# Altium integrated library Driver_Modulation.IntLib: 69 symbols
Pins are listed as number, name and electrical type; pins without a type are passive.

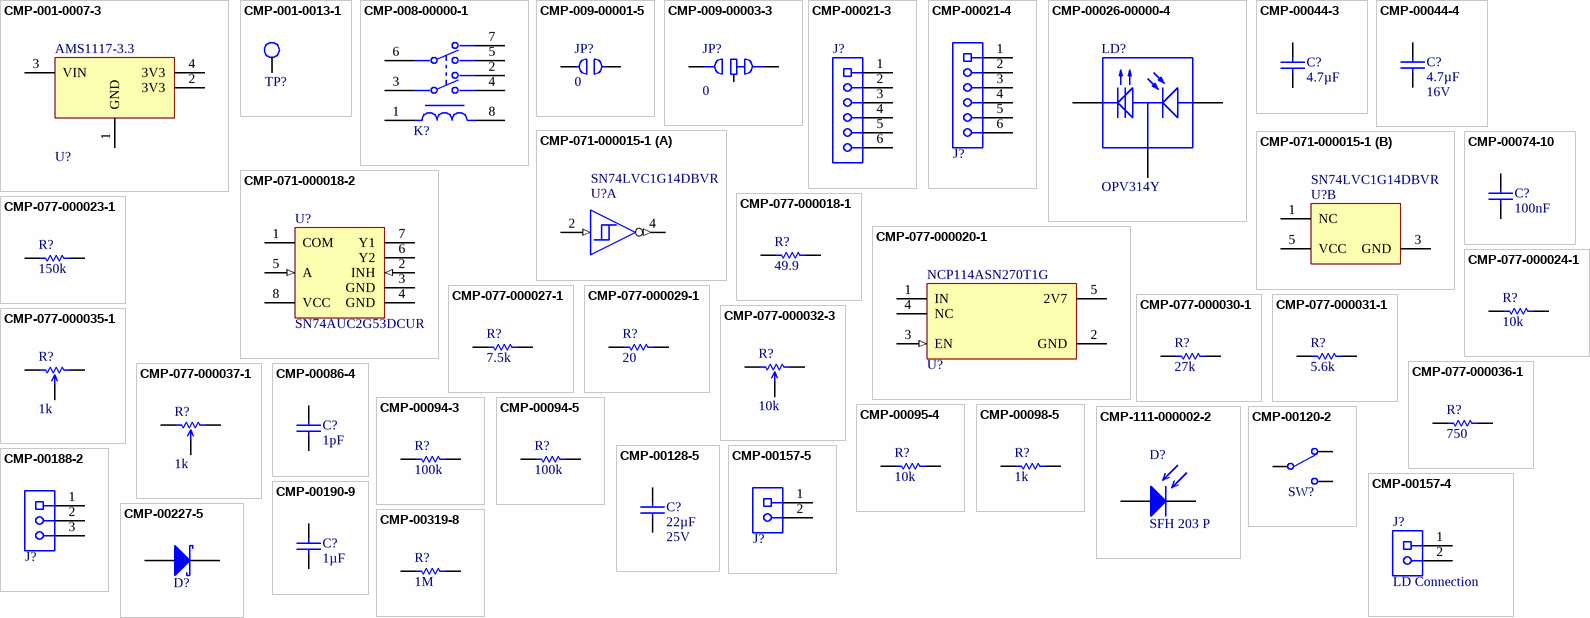
[diagram p0: symbols CMP-001-0007-3 to CMP-00319-8]

## CMP-001-0007-3
designator U?, comment AMS1117-3.3
Gull Wing EAR99 Fixed Positive Single Output Ldo Regulator Dual Voltage Regulator Linear 125C 1.2W 1A 1.8MM; Manufacturer: Advanced Monolithic Systems; Number of Outputs: 1; Nominal Supply Current: 5mA; Output Voltage: 3.3V; Dropout Voltage: 1.1V; Max Supply Voltage: 15V; Pins: 2; Height: 1.8mm; Max Power Dissipation: 1.2W; Max Operating Temperature: 125°C; Output Current: 1A; Min Operating Temperature: -40°C; JLC_PN: C6186; RoHS Compliant: Yes; Case/Package: SOT-223; Source: JLCPCB(Basic); Manufacturer Part Number: AMS1117-3.3; Component Type: Power Supply
footprint 1117_REG_SOT223__SOT230P700X180-4L (SOT223 for AMS/NCP/TLV1117x regulators SOT223, 4-Leads, Body 6.50x7.00mm (avg), Pitch 2.30mm, IPC High Density)
footprint FP-AMS1117-IPC_B
footprint FP-AMS1117-IPC_C
footprint FP-AMS1117-IPC_A
pins: 1 GND (power), 2 3V3, 3 VIN (power), 4 3V3

## CMP-001-0013-1
designator TP?, comment Test Point 5001  (value not drawn)
MS27478 - Connectors Receptacle Electrical Solder Mounting Solder Type Hermetic Seal 38999 Series II Test Point; Manufacturer: Keystone; Manufacturer Part Number: 5001; Voltage Rating: 0V; Current Rating: 0A; Number of Contacts: 1; Contact Material: Silver; RoHS Compliant: Unsure; Housing Color: Black; Height: 4.72mm; Length: 7.62mm; Orientation: Straight; Termination: Through Hole; Gender: -; Mounting Technology: Through Hole; Number of Rows: 1; Source: UWAA_Stock; Contact Plating: Tin; Component Type: Connectors
footprint FP-5001-MFG
pins: 1

## CMP-008-00000-1
designator K?, comment AGQ200A4HX  (value not drawn)
Electromechanical Relay 4.5VDC 145Ohm 2A DPDT (10.6x8.4x5.4)mm SMD General Purpose Relay; Manufacturer: Panasonic; Contact Voltage Rating (AC): 125V; Sealable: WATER PROOF; Electrical Life: 100kcycles; Contact Resistance: 100mΩ; Release Time: 4ms; Coil Power: 140mW; Coil Current: 31mA; Number of Contacts: 2; Coil Voltage (DC): 3.375V; Coil Type: Non-Latching; Insulation Resistance: 1GΩ; Voltage Rating: 110V; Coil Resistance: 145Ω; Relay Type: Telecom; Depth: 8.4mm; Number of Pins: 8; Voltage Rating (AC): 125V; Current Rating: 2A; Height: 5.4mm; Contact Material: Gold, Silver; Max Voltage Rating (AC): 125V; Switching Current: 2A; Mount: Surface Mount; Contact Current Rating: 2A; Operate Time: 4ms; Number of Terminals: 8; Termination: Gull Wing; Response Time: 4ms; Contact Plating: Gold; Source: Distributor; Max Voltage Rating (DC): 110V; RoHS: Compliant; Length: 10.6mm; Throw Configuration: DPDT; Power Consumption: 140mW; Manufacturer Part Number: AGQ200A4HX; Component Type: Relays
footprint FP-AGQ200S03Z-MFG
pins: 1, 2, 3, 4, 5, 6, 7, 8

## CMP-009-00001-5
designator JP?, comment value 0  (hidden comment: JUMPER-0402)
0402 pad placeholder for 0-ohm resistor jumper; Tolerance: 1%; RoHS Compliant: Unsure; Source: Distributor; Case Code (Imperial): 0402; Component Type: Resistors
footprint JUMPER-0402-Footprint-1
footprint RESC1005X04N (Chip Resistor, 2-Leads, Body 1.00x0.50mm, IPC Medium Density)
pins: 1, 2

## CMP-009-00003-3
designator JP?, comment value 0  (hidden comment: JUMPER-0402 TWO STATE)
JUMPER-0402 TWO STATE Fixed Resistor, Metal Glaze/thick Film, 0.1W, 0ohm, Surface Mount, 0402; Manufacturer: Royal Ohm; Manufacturer Part Number: 0402WGF0000TCE; Manufacturer: Panasonic; Manufacturer Part Number: ERJ-2GE0R00X; Tolerance: 1%; Power Rating: 100mW; Source: JLCPCB(Basic); JLC_PN: C17168; Case Code (Imperial): 0402; RoHS Compliant: Yes; Component Type: Resistors
footprint RESC1005X04N TWO STATE (Chip Resistor, 2-Leads, Body 1.00x0.50mm, IPC Medium Density)
pins: 1, 2, 3 COM

## CMP-00021-3
designator J?, comment 68000-406HLF  (value not drawn)
CONN HEADER 6POS .100 STR TIN; Manufacturer: Amphenol Communications Solutions; Max Voltage Rating (AC): 1.5kV; Contact Post Length: 2.41mm; Gender: Male; Insulation Resistance: 5GR; Pitch: 2.54mm; Connector Type: Male Pin; Current Rating: 3A; Number of Contacts: 6; Depth: 2.41mm; Package Quantity: 100; Packaging: Bulk; Orientation: Straight; REACH SVHC: No SVHC; Contact Gender: Male; Max Operating Temperature: 125°C; Number of Rows: 1; Length: 15.24mm; Termination: Solder; Radiation Hardening: No; Flammability Rating: UL94 V-0; Color: Black; Min Operating Temperature: -65°C; Contact Mating Length: 0.23inch; Voltage Rating: 1.5kV; Housing Material: Thermoplastic; Contact Material: Bronze; Contact Plating: Tin; Mount: Through Hole; Housing Color: Black; Number of Positions: 6; Manufacturer Part Number: 68000-406HLF; Component Type: Connectors
footprint 68000-406HLF-Footprint-1
pins: 1, 2, 3, 4, 5, 6

## CMP-00021-4
designator J?, comment 68000-406HLF  (value not drawn)
CONN HEADER 6POS .100 STR TIN; Manufacturer: Amphenol Communications Solutions; Pitch: 2.54mm; Current Rating: 3A; Connector Type: Male Pin; Gender: Male; Number of Contacts: 6; Insulation Resistance: 5G; Voltage Rating: 1.5kV; RoHS Compliant: Unsure; Min Operating Temperature: -65°C; Number of Rows: 1; Max Operating Temperature: 125°C; Orientation: Straight; Source: Aliexpress; Depth: 2.41mm; Contact Material: Bronze; Length: 15.24mm; Contact Plating: Tin; Housing Color: Black; Housing Material: Thermoplastic; Termination: Solder; Manufacturer Part Number: 68000-406HLF; Component Type: Connectors
footprint 68000-406HLF-Footprint-1
pins: 1, 2, 3, 4, 5, 6

## CMP-00026-00000-4
designator LD?, comment OPV314Y
VCSEL Emitter, 840nm Min, 860nm Max, 2500Mbps, TO-46, Through Hole Mount; Manufacturer: Optek; Manufacturer Part Number: OPV314; Max Supply Voltage: 2.2V; Supply Current: 15mA; Body Height: 3.66mm; Operating Wavelength-Nom: 850nm; Threshold Current-Min: 3mA; Body Length or Diameter: 4.67mm; Transmission Type: Digital; Fall Time-Max: 0.1ns; Min Supply Voltage: 1.6V; Spectral Width: 0.85nm; Built-in Feature: MONITOR PHOTODIODE; Number of Channels: 1; Min Operating Temperature: 0°C; Max Operating Temperature: 70°C; Data Rate: 2500Mbps; Package Style: TO-46Meter; RoHS Compliant: Yes; Reach SVHC Compliant: Yes; Operating Wavelength-Max: 860nm; Mounting Technology: Through Hole; Operating Wavelength-Min: 840nm; Fiber Optic Device Type: VCSEL EMITTER; Rise Time: 0.1ns; Component Type: Optoelectronics
footprint LASER_TO-18
simulation model VCSEL_DC
footprint TO-18
pins: 1 LD_K, 2 COM, 3 PD_A

## CMP-00044-3
designator C?, comment value 4.7µF  (hidden comment: C0603C475K9PACTU)
KEMET - C0603C475K9PACTU - SMD Multilayer Ceramic Capacitor, 4.7 µF, 6.3 V, 0603 [1608 Metric], ± 10%, X5R, C Series KEMET; Manufacturer: Samsung Electro-Mechanics; Manufacturer Part Number: CL10A475KO8NNNC; Voltage Rating: 6.3V; Source: JLCPCB(Basic); JLC_PN: C19666; Case Code (Imperial): 0603; RoHS Compliant: Unsure; Tolerance: 10%; Dielectric: X5R; Component Type: Capacitors
footprint CAPC1608X10N (Chip Capacitor, 2-Leads, Body 1.60x0.80mm, IPC Medium Density)
pins: 1, 2

## CMP-00044-4
designator C?, comment value 4.7µF  Voltage Rating: 16V  (hidden comment: CL10A475KO8NNNC)
16V 4.7uF X5R ±10% 0603 Multilayer Ceramic Capacitors MLCC - SMD/SMT ROHS; Manufacturer: Samsung Electro-Mechanics; Dielectric: X5R; Tolerance: 10%; RoHS Compliant: Unsure; Source: JLCPCB(Basic); JLC_PN: C19666; Case Code (Imperial): 0603; Manufacturer Part Number: CL10A475KO8NNNC; Component Type: Capacitors
footprint CAPC1608X10N (Chip Capacitor, 2-Leads, Body 1.60x0.80mm, IPC Medium Density)
pins: 1, 2

## CMP-071-000015-1
designator U?, comment SN74LVC1G14DBVR
Single 1.65-V to 5.5-V inverter with Schmitt-Trigger inputs 5-SOT-23 -40 to 125; Manufacturer Lifecycle Status: ACTIVE; Manufacturer: Texas Instruments; Logic Function: Inverting; Low Level Output Current: 32mA; Quiescent Current: 10µA; High Level Output Current: -32mA; Number of Gates: 1; Turn-On Delay Time: 11ns; Max Junction Temperature (Tj): 150°C; Max Supply Voltage: 5.5V; Min Supply Voltage: 1.65V; Mounting Technology: Surface Mount; Max Operating Temperature: 125°C; Lifecycle Status: Production; Lead Free: Lead Free; Length: 2.9mm; Max Output current: 32mA; Termination: SMD/SMT; Number of Elements: 1; Number of Circuits: 1; Number of Channels: 1; Case/Package: SOT-23; Schedule B: 8542390000, 8542390000; JLC_PN: C7835; Weight: 15.790684mg; Thickness: 1.2mm; Output Current: 32mA; Number of Outputs: 1; RoHS: Compliant; Radiation Hardening: No; Packaging: Cut Tape; Contact Plating: Tin; Number of Bits: 1; REACH SVHC: No; Propagation Delay: 11ns; Width: 1.6mm; Number of Inputs: 1; Pins: 5; Min Operating Temperature: -40°C; Height: 1.45mm; Manufacturer Part Number: SN74LVC1G14DBVR; Component Type: Logic
footprint DBV0005A_N (SOT23, 5-Leads, Body 3.05x1.75mm, Pitch 0.95mm, IPC Medium Density)
footprint DBV0005A_L (SOT23, 5-Leads, Body 3.05x1.75mm, Pitch 0.95mm, IPC High Density)
footprint DBV0005A_M (SOT23, 5-Leads, Body 3.05x1.75mm, Pitch 0.95mm, IPC Low Density)
part A pins: 2 A (in) "Input A", 4 Y (out) "Output Y"
part B pins: 1 NC "Ground", 3 GND (power) "Ground Pin", 5 VCC (power) "Power Pin"

## CMP-071-000018-2
designator U?, comment SN74AUC2G53DCUR
2.5-V, 2: 1 (SPDT), 1-channel general-purpose analog switch 8-VSSOP -40 to 85; Manufacturer: Texas Instruments; Number of Inputs: 2; Turn-Off Delay Time: 10ns; Max Supply Voltage: 2.7V; Bandwidth: 198MHz; Value: 15Ω; Number of Circuits: 1; Min Supply Voltage: 800mV; Supply Type: Single; Low Level Output Current: 50mA; Turn-On Delay Time: 9.2ns; Operating Supply Current: 10µA; Propagation Delay: 100ps; Mount: Surface Mount; Number of Pins: 8; Radiation Hardening: No; RoHS: Compliant; Source: Distributor; Case/Package: VSSOP; Throw Configuration: SPDT; Number of Bits: 2; Length: 2.3mm; Height: 900µm; Thickness: 850µm; Number of Channels: 2; High Level Output Current: 50mA; Max Supply Current: 10µA; Manufacturer Part Number: SN74AUC2G53DCUR; Component Type: Interface
footprint DCU0008A_N (SOP, 8-Leads, Body 2.4x2.1mm, Pitch 0.5mm, IPC Medium Density)
footprint DCU0008A_L (SOP, 8-Leads, Body 2.4x2.1mm, Pitch 0.5mm, IPC High Density)
footprint DCU0008A_M (SOP, 8-Leads, Body 2.4x2.1mm, Pitch 0.5mm, IPC Low Density)
pins: 1 COM, 2 INH (in), 3 GND (power), 4 GND (power), 5 A (in), 6 Y2, 7 Y1, 8 VCC (power)

## CMP-00074-10
designator C?, comment value 100nF  (hidden comment: CL05B104KB54PNC)
Ceramic Capacitor, Multilayer, Ceramic, 50V, 10% +Tol, 10% -Tol, X7R, 15% TC, 0.1uF, Surface Mount, 0402; Manufacturer: Murata; Manufacturer Part Number: GRM155R71C104KA88D; Manufacturer: Samsung; Dielectric: X7R; RoHS Compliant: Yes; Case Code (Imperial): 0402; Tolerance: 10%; JLC_PN: C307331; Voltage Rating: 50V; Source: JLCPCB(Basic); Manufacturer Part Number: CL05B104KB54PNC; Component Type: Capacitors
footprint CAPC1005X06N (Chip Capacitor, 2-Leads, Body 1.00x0.50mm, IPC Medium Density)
pins: 1, 2

## CMP-077-000018-1
designator R?, comment value 49.9  (hidden comment: 0402WGF499JTCE)
62.5mW Thick Film Resistors 50V ±100ppm/℃ ±1% 49.9Ω 0402 Chip Resistor - Surface Mount ROHS; Manufacturer: Royal Ohm; Temperature Coefficient: 200ppm/°C; Power Rating: 62.5mW; Tolerance: 1%; Source: JLCPCB(Basic); RoHS Compliant: Yes; JLC_PN: C25120; Case Code (Imperial): 0402; Manufacturer Part Number: 0402WGF499JTCE; Component Type: Resistors
footprint RESC1005X04N (Chip Resistor, 2-Leads, Body 1.00x0.50mm, IPC Medium Density)
pins: 1, 2

## CMP-077-000020-1
designator U?, comment NCP114ASN270T1G
LDO Voltage Regulator, Fixed, 1.7V to 5.5V, Single Output, 170mV, 2.7V, 300mA, 5 Pins, TSOP; Manufacturer: onsemi; Min Input Voltage: 3.2V; Max Power Dissipation: 250mW; Dropout Voltage: 135mV; Power Supply Rejection Ratio (PSRR): 40dB; Polarity: Positive; Accuracy: 1%; Number of Regulators: 1; Max Input Voltage: 5.5V; Min Output Voltage: 2.7V; Max Output Voltage: 2.7V; Output Voltage: 2.7V; RoHS Compliant: Unsure; Output Current: 300mA; Source: Distributor; RoHS: Compliant; Output Type: Fixed; Case/Package: SOT-23-5; Manufacturer Part Number: NCP114ASN270T1G; Component Type: Linear Regulators
footprint SOT95P280X110-5N (SOT23, 5-Leads, Body 3.00x2.80mm, Pitch 0.95mm, IPC Medium Density)
pins: 1 IN (power), 2 GND (power), 3 EN (in), 4 NC, 5 2V7 (power)

## CMP-077-000023-1
designator R?, comment value 150k  (hidden comment: 0805W8F1503T5E)
Thick Film Resistors - SMD RMC 0805 1/8W 1% T/R-5000; Manufacturer: Royal Ohm; Voltage Rating: 150V; Power Rating: 125mW; RoHS Compliant: Unsure; JLC_PN: C17470; Tolerance: 1%; Source: JLCPCB(Basic); Case Code (Imperial): 0402; Manufacturer Part Number: 0805W8F1503T5E; Component Type: Resistors
footprint RESC2012X05N (Chip Resistor, 2-Leads, Body 2.05x1.25mm, IPC Medium Density)
pins: 1, 2

## CMP-077-000024-1
designator R?, comment value 10k  (hidden comment: 0805W8F1002T5E)
Res Thick Film 0805 10K Ohm 1% 0.125W(1/8W) ±100ppm/C Pad SMD T/R; Manufacturer: Royal Ohm; Voltage Rating: 150V; Power Rating: 125mW; Case Code (Imperial): 0805; JLC_PN: C17414; Tolerance: 1%; Source: JLCPCB(Basic); RoHS Compliant: Unsure; Manufacturer Part Number: 0805W8F1002T5E; Component Type: Resistors
footprint RESC2012X05N (Chip Resistor, 2-Leads, Body 2.05x1.25mm, IPC Medium Density)
pins: 1, 2

## CMP-077-000027-1
designator R?, comment value 7.5k  (hidden comment: 0805W8F7501T5E)
-55℃~+155℃ 125mW 150V 7.5kΩ Thick Film Resistor ±1% ±100ppm/℃ 0805 Chip Resistor - Surface Mount ROHS; Manufacturer: Royal Ohm; Case Code (Imperial): 0805; Source: JLCPCB(Basic); Voltage Rating: 150V; Temperature Coefficient: ±100ppm/℃; JLC_PN: C17807; Tolerance: 1%; RoHS Compliant: Yes; Power Rating: 125mW; Manufacturer Part Number: 0805W8F7501T5E; Component Type: Resistors
footprint RESC2012X05N (Chip Resistor, 2-Leads, Body 2.05x1.25mm, IPC Medium Density)
pins: 1, 2

## CMP-077-000029-1
designator R?, comment value 20  (hidden comment: 0603WAF200JT5E)
Res Thick Film 0603 20 Ohm 1% 0.1W(1/10W) ±200ppm/C Pad SMD T/R; Manufacturer: Royal Ohm; Power Rating: 100mW; Voltage Rating: 75V; Temperature Coefficient: 100ppm/℃; Tolerance: 1%; RoHS Compliant: Yes; Source: JLCPCB(Basic); Case Code (Imperial): 0603; JLC_PN: C22950; Manufacturer Part Number: 0603WAF200JT5E; Component Type: Resistors
footprint RESC1608X05N (Chip Resistor, 2-Leads, Body 1.58x0.85mm, IPC Medium Density)
pins: 1, 2

## CMP-077-000030-1
designator R?, comment value 27k  (hidden comment: 0402WGF2702TCE)
Res Thick Film 0402 27K Ohm 1% 0.063W(1/16W) ±100ppm/C Pad SMD T/R; Manufacturer: Royal Ohm; Voltage Rating: 50V; Temperature Coefficient: 100ppm/°C; Power Rating: 62.5mW; Tolerance: 1%; Source: JLCPCB(Basic); Case Code (Imperial): 0402; JLC_PN: C25771; RoHS Compliant: Unsure; Manufacturer Part Number: 0402WGF2702TCE; Component Type: Resistors
footprint RESC1005X04N (Chip Resistor, 2-Leads, Body 1.00x0.50mm, IPC Medium Density)
pins: 1, 2

## CMP-077-000031-1
designator R?, comment value 5.6k  (hidden comment: 0402WGF5601TCE)
62.5mW Thick Film Resistors 50V ±100ppm/℃ ±1% 5.6kΩ 0402 Chip Resistor - Surface Mount ROHS; Manufacturer: Royal Ohm; Temperature Coefficient: 100ppm/°C; Tolerance: 1%; Case Code (Imperial): 0402; Power Rating: 62.5mW; RoHS Compliant: Unsure; Source: JLCPCB(Basic); JLC_PN: C25908; Voltage Rating: 50V; Manufacturer Part Number: 0402WGF5601TCE; Component Type: Resistors
footprint RESC1005X04N (Chip Resistor, 2-Leads, Body 1.00x0.50mm, IPC Medium Density)
pins: 1, 2

## CMP-077-000032-3
designator R?, comment value 10k  (hidden comment: RK0971114D0B)
Potentiometer, 0.05W, 10000ohm, 10V, 20% +/-Tol, 1 Turn(s); Manufacturer: ALPS; Power Rating: 50mW; RoHS Compliant: Unsure; Case Code (Imperial): N/A; Voltage Rating: 10V; Tolerance: 20%; Source: Aliexpress; Manufacturer Part Number: RK0971114D0B; Component Type: Resistors
footprint POT_RK0971-L-15KC_N-1 (RK097 Potentiometer commonly found on Aliexpress, 15mm rotor)
pins: 1 CCW, 2 W, 3 CW

## CMP-077-000035-1
designator R?, comment value 1k  (hidden comment: TC33X-2-102E)
SMD 3mm Cermet Trimmer - Leadfree 3MM 1KOHMS 25% 0.1WATT OPEN FRM; Manufacturer: Bourns; Power Rating: 100mW; Temperature Coefficient: 250ppm/°C; Source: JLCPCB(Basic); RoHS Compliant: Unsure; Case Code (Imperial): 0402; Tolerance: 25%; Manufacturer Part Number: TC33X-2-102E; Component Type: Resistors
footprint BOUR-TC33X-2_V (SMD, 3-Leads, Body 3.8x3.6mm)
pins: 1 CCW, 2 W, 3 CW

## CMP-077-000036-1
designator R?, comment value 750  (hidden comment: 0805W8F7500T5E)
Thick Film Resistors - SMD RMC 0805 1/8W 1% T/R-5000; Manufacturer: Royal Ohm; Voltage Rating: 150V; Temperature Coefficient: ±100ppm/℃; Power Rating: 125mW; Case Code (Imperial): 0402; JLC_PN: C17818; Tolerance: 1%; Source: JLCPCB(Basic); RoHS Compliant: Unsure; Manufacturer Part Number: 0805W8F7500T5E; Component Type: Resistors
footprint RESC2012X05N (Chip Resistor, 2-Leads, Body 2.05x1.25mm, IPC Medium Density)
pins: 1, 2

## CMP-077-000037-1
designator R?, comment value 1k  (hidden comment: RK097_1K)
Potentiometer, 0.05W, 1000ohm, 10V, 20% +/-Tol, 1 Turn(s); Power Rating: 50mW; RoHS Compliant: Unsure; Tolerance: 20%; Source: Aliexpress; Voltage Rating: 10V; Case Code (Imperial): N/A; Component Type: Resistors
footprint POT_RK0971-L-15KC_N-1 (RK097 Potentiometer commonly found on Aliexpress, 15mm rotor)
pins: 1 CCW, 2 W, 3 CW

## CMP-00086-4
designator C?, comment value 1pF  (hidden comment: GCM1555C1H1R0JA16D)
Cap Ceramic 1pF 50V C0G 5% Pad SMD 0402 125C Automotive T/R; Manufacturer: Fenghua Electronics; Manufacturer Part Number: 0402CG1R0C500NT; RoHS Compliant: Unsure; JLC_PN: C1550; Source: JLCPCB(Basic); Tolerance: 5%; Case Code (Imperial): 0402; Voltage Rating: 50V; Dielectric: C0G; Component Type: Capacitors
footprint CAPC1005X06N (Chip Capacitor, 2-Leads, Body 1.00x0.50mm, IPC Medium Density)
pins: 1, 2

## CMP-00094-3
designator R?, comment value 100k  (hidden comment: CRCW0402100KFKEDC)
RES 100K OHM 1% 1/16W 0402; Manufacturer: Walsin Technologies; Manufacturer Part Number: WR04X1003FTL; Manufacturer: Vishay; Manufacturer: TE Connectivity; Manufacturer Part Number: CRGCQ0402F100K; Manufacturer: Yageo Group; Manufacturer Part Number: RC0402FR-13100KL; Resistance: 100kR; Power Rating: 62.5mW; Temperature Coefficient: 100ppm/°C; Case/Package: SMD/SMT; Max Operating Temperature: 155°C; Termination: Wraparound; JLC_PN: C25741; Composition: Thick Film; Length: 1mm; Min Operating Temperature: -55°C; Tolerance: 1%; Lead Free: Lead Free; Contact Plating: Tin; Mount: Surface Mount; Manufacturer Part Number: CRCW0402100KFKEDC; Component Type: Resistors
footprint RESC1005X04N (Chip Resistor, 2-Leads, Body 1.00x0.50mm, IPC Medium Density)
footprint R0402 (CHIP Resistor, 1.0X0.5mm, 0402)
pins: 1, 2

## CMP-00094-5
designator R?, comment value 100k  (hidden comment: CRCW0402100KFKEDC)
RES 100K OHM 1% 1/16W 0402; Manufacturer: Walsin Technologies; Manufacturer Part Number: WR04X1003FTL; Manufacturer: Vishay; Manufacturer: Yageo Group; Manufacturer Part Number: RC0402FR-13100KL; Manufacturer: TE Connectivity; Manufacturer Part Number: CRGCQ0402F100K; Power Rating: 62.5mW; Temperature Coefficient: 100ppm/°C; Tolerance: 1%; Source: JLCPCB(Basic); JLC_PN: C25741; RoHS Compliant: Unsure; Case Code (Imperial): 0402; Manufacturer Part Number: CRCW0402100KFKEDC; Component Type: Resistors
footprint RESC1005X04N (Chip Resistor, 2-Leads, Body 1.00x0.50mm, IPC Medium Density)
footprint R0402 (CHIP Resistor, 1.0X0.5mm, 0402)
pins: 1, 2

## CMP-00095-4
designator R?, comment value 10k  (hidden comment: CRCW040210K0FKEDC)
D10/CRCW0402-C 100 10K 1% ET7; Manufacturer: Vishay; Temperature Coefficient: 100ppm/°C; Power Rating: 62.5mW; Source: JLCPCB(Basic); JLC_PN: C25744; Tolerance: 1%; Case Code (Imperial): 0402; RoHS Compliant: Unsure; Manufacturer Part Number: CRCW040210K0FKEDC; Component Type: Resistors
footprint RESC1005X04N (Chip Resistor, 2-Leads, Body 1.00x0.50mm, IPC Medium Density)
pins: 1, 2

## CMP-00098-5
designator R?, comment value 1k  (hidden comment: CRCW04021K00FKEDC)
RES 1K OHM 1% 1/16W 0402; Manufacturer: Vishay; Power Rating: 62.5mW; Temperature Coefficient: 100ppm/°C; RoHS Compliant: Unsure; JLC_PN: C11702; Source: JLCPCB(Basic); Tolerance: 1%; Case Code (Imperial): 0402; Manufacturer Part Number: CRCW04021K00FKEDC; Component Type: Resistors
footprint RESC1005X04N (Chip Resistor, 2-Leads, Body 1.00x0.50mm, IPC Medium Density)
footprint R0402 (CHIP Resistor, 1.0X0.5mm, 0402)
pins: 1, 2

## CMP-111-000002-2
designator D?, comment SFH 203 P
Photodiode PIN Chip 850nm 0.62A/W Sensitivity 2-Pin T-1 3/4; Manufacturer: Osram; Forward Voltage: 1.3V; Shape: Square; Max Power Dissipation: 150mW; Reverse Voltage: 20V; Fall Time: 5ns; Max Reverse Voltage (DC): 50V; Viewing Angle: 150°; Forward Current: 80mA; Number of Circuits: 1; Dark Current: 5nA; Max Reverse Current: 0A; Max Repetitive Reverse Voltage (Vrrm): 0V; Technology: 0; Peak Wavelength: 850nm; RoHS Compliant: Unsure; Case/Package: Radial; Contact Plating: Tin; Wavelength: 850nm; Rise Time: 5ns; Pins: 2; Height: 4.6mm; Power Dissipation: 150mW; Length: 5.7mm; Source: JLCPCB(Extended,Economic_PCBA); Reverse Voltage (DC): 50V; Width: 5.7mm; Reverse Breakdown Voltage: 50V; Mounting Technology: Through Hole; Max Forward Surge Current (Ifsm): 0A; Diode Type: PIN; Max Operating Temperature: 100°C; Response Time: 5ns; RoHS: Compliant; Min Operating Temperature: -40°C; Manufacturer Part Number: SFH 203 P; Component Type: Diodes
footprint SFH203P (PIN Photodiode)
pins: 1 K, 2 A

## CMP-00120-2
designator SW?, comment PCM12SMTR  (value not drawn)
C & K COMPONENTS - PCM12SMTR - SWITCH, SPDT, 0.3A, 6VDC, SMD; Manufacturer: SHOU HAN; Manufacturer Part Number: MSK12C02-HB; Voltage Rating (DC): 6V; Max Current Rating: 300mA; Actuator Type: Standard; Switch Function: On-On; Switch Travel: 1.5mm; Insulation Resistance: 100mR; Mechanical Life: 10000Cycles; Contact Resistance: 70mR; Actuator Material: Nylon,Polyamide; Length: 7.7mm; Contact Plating: Silver; Current Rating: 300mA; Min Operating Temperature: -20°C; Contact Current Rating: 300mA; Max Voltage Rating (DC): 6V; Max Operating Temperature: 85°C; Termination: Gull Wing; Package Quantity: 1; Width: 6.7mm; Orientation: Right Angle; Voltage Rating (AC): 6V; Lead Free: Lead Free; Mount: Surface Mount; Actuator Length: 1.5mm; Packaging: Tape and Reel; Contact Material: Copper Alloy,Copper,Silver; Throw Configuration: SPDT; REACH SVHC: No SVHC; Depth: 5mm; Manufacturer: C&K Components; Manufacturer Part Number: PCM12SMTR; Component Type: Switches
footprint PCM12SMTR-Footprint-1
pins: 1, 2, 3

## CMP-00128-5
designator C?, comment value 22µF  Voltage Rating: 25V  (hidden comment: CL21A226MAQNNNE)
Ceramic Capacitor, Multilayer, Ceramic, 25V, 20% +Tol, 20% -Tol, X5R, 15% TC, 22uF, Surface Mount, 0805; Manufacturer: Samsung Electro-Mechanics; RoHS Compliant: Yes; Case Code (Imperial): 0805; Source: JLCPCB(Basic); Dielectric: X5R; JLC_PN: C45783; Tolerance: 20%; Manufacturer Part Number: CL21A226MAQNNNE; Component Type: Capacitors
footprint CAPC2012X14N (Chip Capacitor, 2-Leads, Body 2.00x1.25mm, IPC Medium Density)
pins: 1, 2

## CMP-00157-4
designator J?, comment LD Connection
KK 254 Breakaway Header, Vertical, 2 Circuits, Tin (Sn) Plating, Mating Pin Length 6.09mm 2 POS; Manufacturer: Molex; Number of Positions: 2; Connector Type: Male Pin; Max Voltage Rating (AC): 250V; Current Rating: 4A; Pitch: 2.54mm; Contact Resistance: 20mR; Gender: Male; Glow Wire Compliant: Non-compliant; Mounting Technology: Through Hole; Color: Black; Contact Mating Length: 0.24inch; Depth: 2.49mm; Termination: Solder; Max Operating Temperature: 75°C; Package Quantity: 1; Number of Rows: 1; Flammability Rating: UL94 V-0; Contact Plating: Tin; Contact Material: Brass,Bronze; Voltage Rating (DC): 250V; Max Voltage Rating (DC): 250V; Mount: Through Hole; Min Operating Temperature: 0°C; Housing Color: Black; Series: KK® 42375; Housing Material: Nylon; Radiation Hardening: No; Number of Circuits: 2; Voltage Rating: 250V; Packaging: Bulk; Number of Contacts: 2; Contact Type: Male Pin; REACH SVHC: Unknown; Lead Free: Lead Free; Orientation: Straight; Manufacturer Part Number: 22-28-4020; Component Type: Connectors
footprint 22-28-4020-Footprint-1
pins: 1, 2

## CMP-00157-5
designator J?, comment 22-28-4020  (value not drawn)
KK 254 Breakaway Header, Vertical, 2 Circuits, Tin (Sn) Plating, Mating Pin Length 6.09mm 2 POS; Manufacturer: Molex; Voltage Rating: 250V; Current Rating: 4A; Pitch: 2.54mm; Contact Resistance: 20m; Gender: Male; Connector Type: Male Pin; Number of Contacts: 2; RoHS Compliant: Unsure; Orientation: Straight; Number of Rows: 1; Housing Material: Nylon; Contact Material: Brass,Bronze; Housing Color: Black; Depth: 2.49mm; Source: Aliexpress; Mounting Technology: Through Hole; Max Operating Temperature: 75°C; Contact Plating: Tin; Termination: Solder; Min Operating Temperature: 0°C; Manufacturer Part Number: 22-28-4020; Component Type: Connectors
footprint 22-28-4020-Footprint-1
pins: 1, 2

## CMP-00188-2
designator J?, comment 10129378-903001BLF  (value not drawn)
Conn Unshrouded Header HDR 3 POS 2.54mm Solder ST Thru-Hole Poly Bag; Manufacturer: Amphenol Communications Solutions; Manufacturer: AMPHENOL ICC (FCI); Manufacturer Part Number: 10129378-903001BLF; Component Type: Connectors
footprint 10129378-903001BLF-Footprint-1
pins: 1, 2, 3

## CMP-00190-9
designator C?, comment value 1µF  (hidden comment: CL05A105KA5NQNC)
Ceramic Capacitor, Multilayer, Ceramic, 25V, 10% +Tol, 10% -Tol, X5R, 15% TC, 1uF, Surface Mount, 0402; Manufacturer: Taiyo Yuden; Manufacturer Part Number: JMK105BJ105KV-F; Manufacturer: Samsung Electro-Mechanics; Manufacturer Part Number: CL05A105KO5NNNC; Manufacturer: KYOCERA AVX; Manufacturer Part Number: KGM05AR50J105KH; Manufacturer: Murata; Manufacturer Part Number: GRM155R61A105KE15D; JLC_PN: C52923; RoHS Compliant: Yes; Source: JLCPCB(Basic); Voltage Rating: 25V; Case Code (Imperial): 0402; Dielectric: X5R; Tolerance: 10%; Manufacturer Part Number: CL05A105KA5NQNC; Component Type: Capacitors
footprint CAPC1005X06N (Chip Capacitor, 2-Leads, Body 1.00x0.50mm, IPC Medium Density)
pins: 1, 2

## CMP-00227-5
designator D?, comment RB521S30T1G  (value not drawn)
SCHOTTKY BARRIER DIODE Rectifier Diode, Schottky, 1 Phase, 1 Element, 0.2A, 30V V(RRM), Silicon RB521S-30; Max Reverse Current: 30µA; Power Dissipation: 200mW; Max Forward Surge Current (Ifsm): 1A; Forward Current: 200mA; Forward Voltage: 500mV; Case/Package: SOD-523-2; JLC_PN: C7502702; Technology: SCHOTTKY; Source: JLCPCB(Basic); RoHS Compliant: Yes; Max Repetitive Reverse Voltage (Vrrm): 30V; Component Type: Diodes
footprint SODFL160X70-2N (SODFL, 2-Leads, Body 0.80x1.60mm, IPC Medium Density)
pins: 1 K, 2 A

## CMP-00319-8
designator R?, comment value 1M  (hidden comment: 0402WGF1004TCE)
Fixed Resistor, Metal Glaze/thick Film, 0.0625W, 1000000ohm, 50V, 1% +/-Tol, 100ppm/Cel, Surface Mount, 0402; Manufacturer: Stackpole Electronics; Manufacturer Part Number: RMCF0402FT1M00; Manufacturer: Royal Ohm; Power Rating: 62.5mW; Temperature Coefficient: -100100ppm/°C; JLC_PN: C26083; Case Code (Imperial): 0402; Tolerance: 1%; RoHS Compliant: Yes; Source: JLCPCB(Basic); Manufacturer Part Number: 0402WGF1004TCE; Component Type: Resistors
footprint RESC1005X04N (Chip Resistor, 2-Leads, Body 1.00x0.50mm, IPC Medium Density)
pins: 1, 2

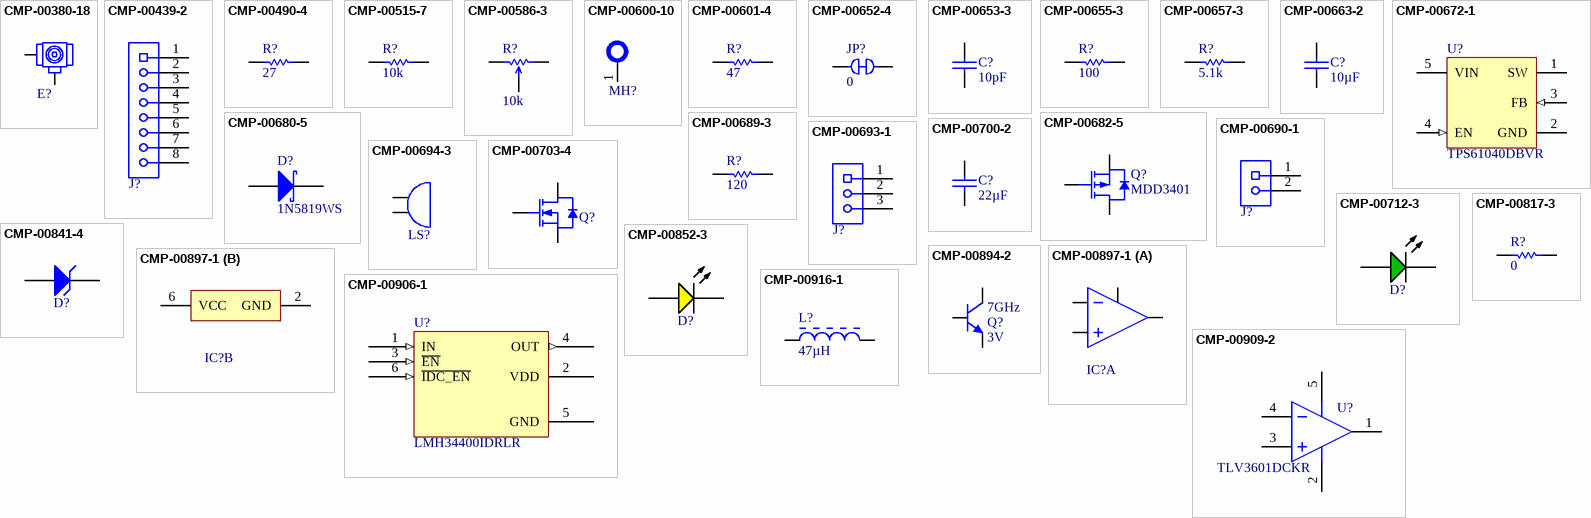
[diagram p1: symbols CMP-00380-18 to CMP-00916-1]

## CMP-00380-18
designator E?, comment U.FL-R-SMT-1(01)  (value not drawn)
Rf Connectors / Coaxial Connectors SMT Ml Rec Au 50 Ohm W/anti Sldr Wicking UFL; Manufacturer: HIROSE ELECTRIC; Manufacturer Part Number: U.FL-R-SMT-1(80); Manufacturer Part Number: U.FL-R-SMT(01); Manufacturer: BAT Wireless; Manufacturer Part Number: BWU.FL-IPEX1; Number of Ports: 1; Dielectric Material: Polymer; Impedance: 50; Mating Cycles: 30; Connector Type: Receptacle,Male Pin; Body Plating: Silver; Center Contact Plating: Gold; Max Frequency: 6GHz; Body Material: Bronze; Lead Free: Lead Free; Series: U.FL; JLC PN: C88374; Contact Material: Brass; Fastening Type: SNAP-ON; Min Operating Temperature: -40°C; RoHS Compliant: Yes; Housing Color: Beige; Depth: 3mm; Contact Plating: Gold; Mount: Surface Mount; Length: 3.1mm; Orientation: Vertical; Termination: Solder; Max Operating Temperature: 90°C; Source: UWAA_Stock; Manufacturer Part Number: U.FL-R-SMT-1(01); Component Type: Radio & RF
footprint HRS-U.FL-R-SMT-3_V 4_LAYER_KO (SMT, 3-Leads, Body 2.6x2.6mm 4_LAYER_KO)
footprint HRS-U.FL-R-SMT-3_V 2_LAYER_KO (SMT, 3-Leads, Body 2.6x2.6mm 2_LAYER_KO)
footprint HRS-U.FL-R-SMT-3_V NO_KO (SMT, 3-Leads, Body 2.6x2.6mm NO_KO)
footprint HRS-U.FL-R-SMT-3_V 6_LAYER_KO (SMT, 3-Leads, Body 2.6x2.6mm 6_LAYER_KO)
footprint HRS-U.FL-R-SMT-3_V 1_LAYER_KO (SMT, 3-Leads, Body 2.6x2.6mm 1_LAYER_KO)
pins: 1 SIG, 2 GND

## CMP-00439-2
designator J?, comment 22-28-4080  (value not drawn)
Conn Unshrouded Header HDR 8 POS 2.54mm Solder ST Thru-Hole Bag; Manufacturer: Molex; Number of Contacts: 8; Voltage Rating (DC): 250V; Contact Resistance: 20mR; Gender: Male; Current Rating: 4A; Max Voltage Rating (DC): 250.25kV; Glow Wire Compliant: Non-compliant; Connector Type: Male Pin; Max Operating Temperature: 75°C; Orientation: Straight; Depth: 2.49mm; Max Voltage Rating (AC): 250V; Package Quantity: 1; Housing Color: Black; Flammability Rating: UL94 V-0; Color: Black; Voltage Rating: 250V; Pitch: 2.54mm; Housing Material: Thermoplastic; Radiation Hardening: No; Min Operating Temperature: 0°C; REACH SVHC: Unknown; Number of Positions: 8; Contact Mating Length: 0.24inch; Mount: Through Hole; Contact Material: Brass,Bronze; Contact Plating: Tin; Contact Gender: Male; Packaging: Bulk; Lead Free: Lead Free; Series: 42375; RoHS Compliant: Yes; Number of Rows: 1; Contact Type: Male Pin; Termination: Solder; Number of Circuits: 8; Manufacturer Part Number: 22-28-4080; Component Type: Connectors
footprint 22-28-4080-Footprint-1
pins: 1, 2, 3, 4, 5, 6, 7, 8

## CMP-00490-4
designator R?, comment value 27  (hidden comment: ERJ-3GEYJ270V)
Res Thick Film 0603 27 Ohm 5% 1/10W +/-200ppm/ßC Molded SMD Punched Carrier T/R; Manufacturer: Uniroyal; Manufacturer Part Number: 0603WAF270JT5E; Manufacturer: Panasonic; Power Rating: 100mW; Voltage Rating: 75V; Temperature Coefficient: 200ppm/°C; Source: JLCPCB(Basic); Case Code (Imperial): 0603; JLC_PN: C25190; RoHS Compliant: Yes; Tolerance: 5%; Manufacturer Part Number: ERJ-3GEYJ270V; Component Type: Resistors
footprint RESC1608X05N (Chip Resistor, 2-Leads, Body 1.58x0.85mm, IPC Medium Density)
pins: 1, 2

## CMP-00515-7
designator R?, comment value 10k  (hidden comment: CRCW0402-10K0FKED)
Res Thick Film 0402 10K Ohm 1% 1/16W ±100ppm/°C Molded SMD Paper T/R; Manufacturer: Vishay; Manufacturer Part Number: CRCW040210K0FKEDC; Manufacturer Part Number: CRCW040210K0FKEDHP; Voltage Rating: 50V; Power Rating: 63mW; RoHS Compliant: Unsure; JLC_PN: C25744; Source: JLCPCB(Basic); Tolerance: 1%; Case Code (Imperial): 0402; Temperature Coefficient: 100ppm/°C; Manufacturer Part Number: CRCW0402-10K0FKED; Component Type: Resistors
footprint RESC1005X04N (Chip Resistor, 2-Leads, Body 1.00x0.50mm, IPC Medium Density)
footprint R0402 (CHIP Resistor, 1.0X0.5mm, 0402)
pins: 1, 2

## CMP-00586-3
designator R?, comment value 10k  (hidden comment: TC33X-2-103E)
Res Trimmer 10K Ohm 25% 1/10W 1(Elec)/1(Mech)Turn (3 X 3.8mm) Foot Print SMD Embossed T/R; Manufacturer: Bourns; Temperature Coefficient: 250ppm/°C; Power Rating: 100mW; Case Code (Imperial): 0402; Source: JLCPCB(Basic); Tolerance: 25%; RoHS Compliant: Unsure; Manufacturer Part Number: TC33X-2-103E; Component Type: Resistors
footprint BOUR-TC33X-2_V (SMD, 3-Leads, Body 3.8x3.6mm)
pins: 1 CCW, 2 W, 3 CW

## CMP-00600-10
designator MH?, comment Mounting hole M3  (value not drawn)  (no BOM)
Close fit Di3.2 mm Alt: M3 nut flange; Component Type: Mechanical
footprint Mounting hole M3-Footprint-1
footprint Mounting hole Insulated M3
footprint Mounting hole M3-Footprint-2
footprint Mounting hole Insulated M3 - Tight (This hole size should have some resistance to screwing in a M3 bolt)
footprint Mounting hole M3-Footprint-Simple (Barebones M3 hole footprint without silkscreen or keepout)
pins: 1

## CMP-00601-4
designator R?, comment value 47  (hidden comment: RC0603FR-0747RL)
Res Thick Film 0603 47 Ohm 1% 0.1W(1/10W) ±100ppm/C Pad SMD T/R; Manufacturer: Uniroyal; Manufacturer Part Number: 0603WAF470JT5E; Manufacturer: Yageo Group; Temperature Coefficient: 100ppm/°C; Voltage Rating: 75V; Power Rating: 100mW; RoHS Compliant: Unsure; JLC_PN: C23182; Tolerance: 1%; Source: JLCPCB(Basic); Case Code (Imperial): 0603; Manufacturer Part Number: RC0603FR-0747RL; Component Type: Resistors
footprint RESC1608X05N (Chip Resistor, 2-Leads, Body 1.58x0.85mm, IPC Medium Density)
pins: 1, 2

## CMP-00652-4
designator JP?, comment value 0  (hidden comment: ERJ-2GE0R00X)
Fixed Resistor, Metal Glaze/thick Film, 0.1W, 0ohm, Surface Mount, 0402; Manufacturer: Panasonic; Manufacturer: Royal Ohm; Manufacturer Part Number: 0402WGF0000TCE; Power Rating: 100mW; Tolerance: 1%; Source: JLCPCB(Basic); Case Code (Imperial): 0402; RoHS Compliant: Yes; JLC_PN: C17168; Manufacturer Part Number: ERJ-2GE0R00X; Component Type: Resistors
footprint JUMPER_RESC1005X04N (Chip Resistor, 2-Leads, Body 1.00x0.50mm, IPC Medium Density)
footprint RESC1005X04N (Chip Resistor, 2-Leads, Body 1.00x0.50mm, IPC Medium Density)
pins: 1, 2

## CMP-00653-3
designator C?, comment value 10pF  (hidden comment: CL05C100JB5NNNC)
Multilayer Ceramic Capacitor, 10 pF, 50 V, ± 5%, C0G (NP0), 0402 [1005 Metric]; Manufacturer: Samsung Electro-Mechanics; Voltage Rating: 50V; Dielectric: C0G; JLC_PN: C32949; Source: JLCPCB(Basic); Case Code (Imperial): 0402; RoHS Compliant: Yes; Tolerance: 5%; Manufacturer Part Number: CL05C100JB5NNNC; Component Type: Capacitors
footprint CAPC1005X06N (Chip Capacitor, 2-Leads, Body 1.00x0.50mm, IPC Medium Density)
pins: 1, 2

## CMP-00655-3
designator R?, comment value 100  (hidden comment: 0402WGF1000TCE)
Fixed Resistor, Metal Glaze/thick Film, 0.0625W, 100ohm, 50V, 1% +/-Tol, 100ppm/Cel, Surface Mount, 0402; Manufacturer: Royal Ohm; RoHS Compliant: Yes; JLC_PN: C25076; Tolerance: 1%; Source: JLCPCB(Basic); Case Code (Imperial): 0402; Manufacturer Part Number: 0402WGF1000TCE; Component Type: Resistors
footprint RESC1005X04N (Chip Resistor, 2-Leads, Body 1.00x0.50mm, IPC Medium Density)
pins: 1, 2

## CMP-00657-3
designator R?, comment value 5.1k  (hidden comment: 0402WGF5101TCE)
RESISTOR, 0402 1% 5K1; Power Rating: 0.0625W; Resistance: 5.1kohm; Tolerance, Resistance: ± 1%; Series: MC;...; Manufacturer: Royal Ohm; RoHS Compliant: Unsure; JLC_PN: C25905; Source: JLCPCB(Basic); Tolerance: 1%; Case Code (Imperial): 0402; Manufacturer Part Number: 0402WGF5101TCE; Component Type: Resistors
footprint RESC1005X04N (Chip Resistor, 2-Leads, Body 1.00x0.50mm, IPC Medium Density)
pins: 1, 2

## CMP-00663-2
designator C?, comment value 10µF  (hidden comment: CL05A106MQ5NUNC)
Cap Ceramic 10uF 6.3V X5R 20% SMD 0402 85°C Paper T/R; Manufacturer: Samsung; Source: JLCPCB(Basic); JLC_PN: C15525; Tolerance: 20%; Case Code (Imperial): 0402; Voltage Rating: 6.3V; RoHS Compliant: Yes; Dielectric: X5R; Manufacturer Part Number: CL05A106MQ5NUNC; Component Type: Capacitors
footprint CAPC1005X06N (Chip Capacitor, 2-Leads, Body 1.00x0.50mm, IPC Medium Density)
pins: 1, 2

## CMP-00672-1
designator U?, comment TPS61040DBVR
Conv DC-DC 1.8V to 6V Step Up Single-Out 1.8V to 28V 0.4A 5-Pin SOT-23 T/R; Manufacturer: Texas Instruments; Quiescent Current: 28uA; Current Rating: 28mA; Number of Outputs: 1; Output Current per Channel: 350mA; Output Power: 357mW; Dimming: PWM; Topology: Boost; Output Current: 400mA; Efficiency: 86%; Operating Frequency: 1 MHz; Switching Frequency: 1MHz; Output Type: Adjustable; Max Supply Current: 50uA; Max Output current: 90mA; Radiation Hardening: No; Min Output Voltage: 1.8V; Weight: 0.000459oz; RoHS Compliant: Yes; Min Input Voltage: 1.8V; Number of Channels: 1; Min Supply Voltage: 1.8V; Width: 1.6mm; Series: -; Reach SVHC Compliant: No; Max Supply Voltage: 6V; Case/Package: SOT-23-5; Packaging: Tape and Reel; Thickness: 1.2mm; Output Voltage: 28V; Max Output Voltage: 28V; Package Quantity: 3000; JLC_PN: C7722; Max Operating Temperature: 85°C; Pins: 5; Min Operating Temperature: -40°C; Frequency: 1MHz; Termination: SMD/SMT; Lead Free: Lead Free; High Level Output Current: 90mA; Manufacturer Part Number: TPS61040DBVR; Component Type: Power Supply
footprint DBV0005A_L (SOT23, 5-Leads, Body 3.05x1.75mm, Pitch 0.95mm, IPC High Density)
footprint DBV0005A_M (SOT23, 5-Leads, Body 3.05x1.75mm, Pitch 0.95mm, IPC Low Density)
footprint DBV0005A_N (SOT23, 5-Leads, Body 3.05x1.75mm, Pitch 0.95mm, IPC Medium Density)
pins: 1 SW (power) "Connect the inductor and the Schottky diode to this pin. This is the switch pin and is connected to the drain of the internal power MOSFET.", 2 GND (power) "Ground", 3 FB (in) "This is the feedback pin of the device. Connect this pin to the external voltage divider to program the desired output voltage.", 4 EN (in) "This is the enable pin of the device. Pulling this pin to ground forces the device into shutdown mode reducing the supply current to less than 1 mA. This pin should not be left floating and needs to be terminated.", 5 VIN (power) "Supply voltage pin"

## CMP-00680-5
designator D?, comment 1N5819WS
VR=40V IF=1A 120pF P=250mW; Forward Voltage: 600mV; Forward Current: 1A; Max Reverse Current: 500µA; Max Repetitive Reverse Voltage (Vrrm): 40V; Power Dissipation: 1.5W; Max Forward Surge Current (Ifsm): 25A; Technology: SCHOTTKY; Case/Package: SOD-323; JLC_PN: C191023; RoHS Compliant: Unsure; Source: JLCPCB(Basic); Component Type: Diodes
footprint SODFL250X100-2N (SODFL, 2-Leads, Body 1.30x2.50mm, IPC Medium Density)
simulation model DI_1N5819
pins: 1 K, 2 A

## CMP-00682-5
designator Q?, comment MDD3401
30V 4.2A 45mΩ@10V P Channel SOT-23 MOSFETs ROHS; Manufacturer: MDD; Manufacturer Part Number: MDD3401A; Input Capacitance: 655pF; Rds On Max: 57m; Drain to Source Voltage (Vdss): -30V; Max Power Dissipation: 1.2W; Gate to Source Voltage (Vgs): 12V; Threshold Voltage: -1.2V; Continuous Drain Current (ID): 4.2A; Case/Package: SOT-23; JLC_PN: C427383; Type: P Channel; RoHS Compliant: Unsure; Source: JLCPCB(Extended,Economic_PCBA); Component Type: MOSFET
footprint SOT95P252X140-3N (SOT23, 3-Leads, Body 2.95x2.53mm, Pitch 0.95mm, IPC Medium Density)
simulation model AO3401
pins: 1 G, 2 S, 3 D

## CMP-00689-3
designator R?, comment value 120  (hidden comment: 0402WGF1200TCE)
Fixed Resistor, Metal Glaze/thick Film, 0.0625W, 120ohm, 50V, 1% +/-Tol, 100ppm/Cel, Surface Mount, 0402; Manufacturer: Royal Ohm; Temperature Coefficient: 100ppm/°C; Power Rating: 62.5mW; JLC_PN: C25079; RoHS Compliant: Yes; Tolerance: 1%; Case Code (Imperial): 0402; Source: JLCPCB(Basic); Manufacturer Part Number: 0402WGF1200TCE; Component Type: Resistors
footprint RESC1005X04N (Chip Resistor, 2-Leads, Body 1.00x0.50mm, IPC Medium Density)
pins: 1, 2

## CMP-00690-1
designator J?, comment B2B-PH-K-S(LF)(SN)  (value not drawn)
Board Connector, 2 Contact(s), 1 Row(s), Male, Straight, 0.079 inch Pitch, Solder Terminal, Locking, Natural Insulator; Manufacturer: JST; Manufacturer Part Number: B2B-PH-K-S(LF)(SN); Component Type: Connectors
footprint JST_B2B-PH-K-S(LF)(SN)
pins: 1, 2

## CMP-00693-1
designator J?, comment B3B-PH-K-S(LF)(SN)  (value not drawn)
Connector Header, PH Series, 3 Position, 2.00mm, Through Hole, Press-Fit, Solder, Natural; Manufacturer: JST; Mated Stacking Heights: 8mm; Voltage Rating (DC): 100V; Contact Post Length: 0.134inch; Gender: Male; Number of Positions: 3; Contact Type: Male Pin; Max Operating Temperature: 85°C; Packaging: Bulk; Insulation Height: 0.236inch; Min Operating Temperature: -25°C; Termination: Press-Fit; Material: Polyamide; Voltage Rating: 100V; Number of Rows: 1; Contact Material: Brass; Contact Shape: Square; Insulation Color: Natural; Weight: 28.349523g; Flammability Rating: UL94 V-0; Insulation Material: Nylon; Fastening Type: Detent; Series: PH; Contact Finish - Mating: TIN; Contact Mating Length: 0.13inch; Lead Free: Lead Free; Connector Type: Header; Mounting Technology: Through Hole; Manufacturer Part Number: B3B-PH-K-S(LF)(SN); Component Type: Connectors
footprint JST-B3B-PH-K-S-3_V (Connector, 3-Leads, Body 7.9x4.5mm, Pitch 2mm)
pins: 1, 2, 3

## CMP-00694-3
designator LS?, comment TMB12A03  (value not drawn)
Active (driven circuit included) 85dB@3V,10cm Magnetic 2300Hz Plugin,D=12mm Buzzers ROHS; Manufacturer: YUEXIN; Manufacturer Part Number: TMB12D03 3V; Manufacturer: Jiangsu Huaneng Elec; Operating Voltage: 1.5V~4V; Frequency: 2300Hz; Height: 9.8mm; Diameter (φD): 12mm; Technology Type: Magnetic; Sound Pressure Level (SPL): 85dB@3V,10cm; Oscillator Circuit: Active (driven circuit included); Manufacturer Part Number: TMB12A03; Component Type: Audio
footprint TMB12A03 -Footprint-1
pins: 1, 2

## CMP-00700-2
designator C?, comment value 22µF  (hidden comment: CL10A226MQ8NRNC)
Multilayer Ceramic Capacitor, 22 uF, 6.3 V, ± 20%, X5R, 0603 [1608 Metric]; Manufacturer: Samsung Electro-Mechanics; Voltage Rating: 6.3V; Source: JLCPCB(Basic); Dielectric: X5R; RoHS Compliant: Yes; JLC_PN: C59461; Case Code (Imperial): 0603; Tolerance: 20%; Manufacturer Part Number: CL10A226MQ8NRNC; Component Type: Capacitors
footprint CAPC1608X10N (Chip Capacitor, 2-Leads, Body 1.60x0.80mm, IPC Medium Density)
pins: 1, 2

## CMP-00703-4
designator Q?, comment MDD2302  (value not drawn)
4A 25mΩ@4.5V null SOT-23 MOSFETs ROHS N CHANNEL; Manufacturer: MDD; Max Power Dissipation: 1.25W; Input Capacitance: 340pF; Gate to Source Voltage (Vgs): 12V; Drain to Source Voltage (Vdss): 20V; Threshold Voltage: 1.2V; Rds On Max: 28m; RoHS Compliant: Unsure; Source: JLCPCB(Basic); Type: N channel; JLC_PN: C427390; Continuous Drain Current (ID): 4A; Case/Package: SOT-23; Manufacturer Part Number: MDD2302; Component Type: MOSFET
footprint SOT95P252X140-3N (SOT23, 3-Leads, Body 2.95x2.53mm, Pitch 0.95mm, IPC Medium Density)
simulation model Si2302CDS
pins: 1 G, 2 S, 3 D

## CMP-00712-3
designator D?, comment KT-0805G  (value not drawn)
Emerald 0805  Light Emitting Diodes (LED) ROHS green; Forward Voltage: 2.8V; Wavelength: 520nm; Color: Emerald; Source: JLCPCB(Basic); JLC_PN: C2297; Case Code (Imperial): 0805; RoHS Compliant: Unsure; Component Type: LED
footprint LED_0805 (Chip LED, 2-Leads, Body 0805, IPC Medium Density)
pins: 1 K, 2 A

## CMP-00817-3
designator R?, comment value 0  (hidden comment: 0402WGF0000TCE)
Metal Glaze/thick Film, 0.0625W, 0ohm, 0402; Manufacturer: Royal Ohm; Tolerance: 1%; JLC_PN: C17168; RoHS Compliant: Unsure; Case Code (Imperial): 0402; Source: JLCPCB(Basic); Manufacturer Part Number: 0402WGF0000TCE; Component Type: Resistors
footprint RESC1005X04N (Chip Resistor, 2-Leads, Body 1.00x0.50mm, IPC Medium Density)
pins: 1, 2

## CMP-00841-4
designator D?, comment H5VU10U  (value not drawn)
5A 55W 16V 9V Unidirectional 5V DFN1006-2L  ESD and Surge Protection (TVS/ESD) ROHS; Manufacturer: Hongjiacheng; Capacitance: 0.8pF; Breakdown Voltage: 9V; Source: JLCPCB(Basic); Value: 5V; JLC_PN: C22395519; Polarity: Unidirectional; RoHS Compliant: Unsure; Package: DFN1006-2L; Peak Pulse Power Dissipation: 55W; Clamping Voltage: 16V; Manufacturer Part Number: H5VU10U; Component Type: TVS & ESD
footprint DFN60P100X45-2L (DFN, 2-Leads, Body 0.60x1.00mm, Pitch 0.60mm, IPC High Density)
pins: 1 K, 2 A

## CMP-00852-3
designator D?, comment KT-0805Y  (value not drawn)
Yellow 0805 LED Indication - Discrete ROHS; Manufacturer: KENTO; Forward Voltage: 2.2V; Luminous Intensity: 113mcd; Wavelength: 594nm; JLC_PN: C2296; RoHS Compliant: Unsure; Source: JLCPCB(Basic); Case Code (Imperial): 0805; Color: Yellow; Manufacturer Part Number: KT-0805Y; Component Type: LED
footprint LED_0805 (Chip LED, 2-Leads, Body 0805, IPC Medium Density)
pins: 1 K, 2 A

## CMP-00894-2
designator Q?, comment Frequency: 7GHz  Emitter Base Voltage (VEBO): 3V  (hidden comment: 2SC3356)
RF Small Signal Bipolar Transistor, 0.1A I(C), 1-Element, Ultra High Frequency Band, Silicon, NPN; Manufacturer: Renesas; Manufacturer Part Number: 2SC3356A; Manufacturer Part Number: 2SC3356-T1B-A; Max Collector Current: 100mA; DC Current Gain-Min (hFE): 50; Max Power Dissipation: 200mW; Collector-emitter Voltage Max: 12V; Collector Base Voltage (VCBO): 20V; Source: JLCPCB(Basic); Polarity: NPN; Case/Package: SOT-23; RoHS Compliant: Yes; JLC_PN: C28646266; Component Type: BJT
footprint SOT-23_hongjiacheng__SOT95P240X115-3L (SOT23, 3-Leads, Body 2.90x2.40mm, Pitch 0.95mm, IPC High Density); pin to pad 1>3 2>1 3>2
pins: 1 C, 2 B, 3 E

## CMP-00897-1
designator IC?, comment OPA355NA/3K  (value not drawn)
Operational Amplifier, 1 Func, 9000uV Offset-Max, 100MHz Band Width, CMOS, PDSO6; Manufacturer: Texas Instruments; Gain Bandwidth Product: 200MHz; Output Current per Channel: 60mA; Operating Supply Current: 11mA; Max Supply Voltage: 5.5V; Input Bias Current: 50pA; Input Offset Voltage (Vos): 9mV; Slew Rate: 300V/µs; Power Supply Rejection Ratio (PSRR): 88dB; Min Supply Voltage: 2.7V; Number of Channels: 1; Voltage Gain: 10000; Common Mode Rejection Ratio: 80dB; Source: JLCPCB(Extended,Economic_PCBA); RoHS Compliant: Yes; Quiescent Current: 11mA; Case/Package: SOT-23-6; JLC_PN: C2058090; Manufacturer Part Number: OPA355NA/3K; Component Type: Op Amps
footprint DBV0006A_SOT-23-6_TI__SOT95P280X145-6L (SOT23, 6-Leads, Body 2.90x2.80mm, Pitch 0.95mm, IPC High Density)
part A pins: 1 VOUT, 3 VIN+, 4 VIN-, 5 ENABLE
part B pins: 2 GND, 6 VCC

## CMP-00906-1
designator U?, comment LMH34400IDRLR
"240-MHZ, Single-ended, Transimpe" Transimpedance Amplifier IC SOT-563; Manufacturer Lifecycle Status: ACTIVE; Manufacturer: Texas Instruments; Lifecycle Status: Production; RoHS: Compliant; Length: 1.6mm; JLC_PN: C19723951; Width: 1.2mm; Height: 600µm; Thickness: 550µm; Pins: 6; Manufacturer Part Number: LMH34400IDRLR; Component Type: Amplifiers
footprint SOTFL50P160X60-6N (SOTFL, 6-Leads, Body 1.60x1.60mm, Pitch 0.50mm, IPC Medium Density)
footprint SOTFL50P160X60-6M (SOTFL, 6-Leads, Body 1.60x1.60mm, Pitch 0.50mm, IPC Low Density)
pins: 1 IN (in), 2 VDD (power), 3 ~{EN} (in), 4 OUT (out), 5 GND (power), 6 ~{IDC_EN} (in)

## CMP-00909-2
designator U?, comment TLV3601DCKR
2.5-ns high-speed rail-to-rail comparator with push-pull outputs 5-SC70 -40 to 125; Manufacturer Lifecycle Status: ACTIVE; Manufacturer: Texas Instruments; Number of Channels: 1; RoHS: Compliant; Width: 1.25mm; Lifecycle Status: Production; JLC_PN: C2974371; Length: 2mm; Pins: 5; RoHS Compliant: Unsure; Height: 1.1mm; Thickness: 900µm; Manufacturer Part Number: TLV3601DCKR; Component Type: Comparators
footprint DCK0005A_SC-70-5_TI_SOT65P210X110-5N (TI SC70(5) SOT23, 5-Leads, Body 2.00x2.10mm, Pitch 0.65mm, IPC Medium Density)
pins: 1 OUT, 2 V-, 3 IN+, 4 IN-, 5 V+

## CMP-00916-1
designator L?, comment value 47µH  (hidden comment: PCD0504MT470)
General Purpose Inductor, 47uH, 20%, 1 Element, SMD, 2320; Manufacturer: Tai Tech; Manufacturer Part Number: HPC5040NF-470M; Manufacturer: Viking Tech; Shielding: No; Core Material: Ferrite; Current Rating: 720mA; Test Frequency: 1kHz; Saturation Current: 1.1A; DC Resistance (DCR): 0.37; Tolerance: 20%; RoHS Compliant: Yes; Source: UWAA_Stock; Case Code (Imperial): N/A; Manufacturer Part Number: PCD0504MT470; Component Type: Inductors
footprint INDP5252X48L (Precision Wire Wound Inductor, 2-Leads, Body 5.20x5.20mm, IPC High Density)
pins: 1, 2